# Altium schematic symbol library AppoTech Bluetooth SoC.SchLib: 1 symbol
Pins are listed as number, name and electrical type; pins without a type are passive.

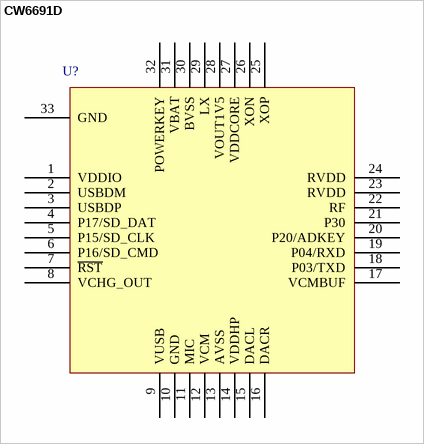
[diagram p0: symbol CW6691D]

## CW6691D
designator U?
Bluetooth  Multimedia  Microcontroller, QFN-32; Manufacturer: AppoTech; PartNumber: CW6691D; Package: QFN-32; PackageDescription: 32-Pin QFN, Body 5.0 x 5.0mm; Supplier 1: FreeWings; Supplier Part Number 1: CW6691D
footprint QFN50P500X500X90-32N (QFN, 32-Leads, Body 5.1x5.1mm (max), Pitch 0.50mm, IPC Medium Density)
footprint QFN50P500X500X90-32M (QFN, 32-Leads, Body 5.1x5.1mm (max), Pitch 0.50mm, IPC Low Density)
footprint QFN50P500X500X90-32L (QFN, 32-Leads, Body 5.1x5.1mm (max), Pitch 0.50mm, IPC High Density)
pins: 1 VDDIO, 2 USBDM, 3 USBDP, 4 P17/SD_DAT, 5 P15/SD_CLK, 6 P16/SD_CMD, 7 ~{RST}, 8 VCHG_OUT, 9 VUSB, 10 GND, 11 MIC, 12 VCM, 13 AVSS, 14 VDDHP, 15 DACL, 16 DACR, 17 VCMBUF, 18 P03/TXD, 19 P04/RXD, 20 P20/ADKEY, 21 P30, 22 RF, 23 RVDD, 24 RVDD, 25 XOP, 26 XON, 27 VDDCORE, 28 VOUT1V5, 29 LX, 30 BVSS, 31 VBAT, 32 POWERKEY, 33 GND